# Altium footprint library PcbLib.PcbLib: 19 footprints (part 2 of 2)
Each footprint in its own frame and in the unit in brackets; x right, y up, seen from the top. Pads: shape width x height; smd on the part's side, far side on the other; paste and mask are expansions set on the pad; w line width, h text height; cw(c..) or ccw(c..) is an arc to the next point about the centre after c.
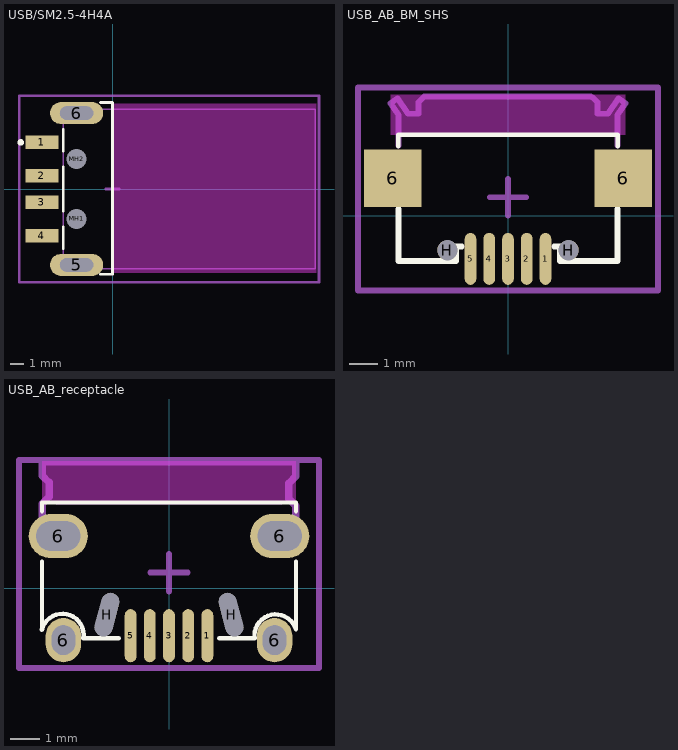
[diagram p1: the footprints below, top view; thin cyan lines are the x and y axes]

## USB/SM2.5-4H4A [mm] "Connector; USB1.1, Type A, SM; 4 Position; Right Angle"
height 4.5
pads (8):
  rect 2.5x1 smd: 1(-5.3,3.5) 2(-5.3,1) 3(-5.3,-1) 4(-5.3,-3.5)
  oval 4x1.65 hole 1 slot 2.5 at 0 deg: 5(-2.7,-5.7) 6(-2.7,5.7)
  round 1.2 hole 1.5 unplated: MH1(-2.7,-2.25) MH2(-2.7,2.25)
Top Overlay:
  circle w0.25: c-6.9,3.5 r0.125
  lines w0.2: -3.7,-4.475 -3.7,-2.83 ; -3.7,-1.68 -3.7,1.68 ; -3.7,2.83 -3.7,4.475 ; -0.9,-6.4 0,-6.4 0,6.5 -0.9,6.5
Keep-Out Layer:
  board cut-out: 0,6.4 0,-6.3 15.3,-6.3 15.3,6.4
Mechanical 1:
  lines w0.1: 0,-6 0,6
  text "PCB Edge" at 0.473,-5.173 h0.25
Mechanical 13:
  lines w0.1: -3.7,-6 -3.7,6 15.2,6 15.2,-6 -3.7,-6
Mechanical 15:
  lines w0.2: -0.5,0 0.5,0 ; 0,-0.5 0,0.5 ; -7,-7 -7,7 15.5,7 15.5,-7 -7,-7
3D body "14381.STEP": height 3.13, standoff -2.67, extent -5.25,-6.3 15.05,6.306

## USB_AB_BM_SHS [mm] "USB Micro AB - Standard (Bottom mount), Shell SMT DESIGNER ABBAS BASEREH"
height 2.8
pads (9):
  oval 0.4x1.8 smd: 1(1.3,-1.5) 2(0.65,-1.5) 3(0,-1.5) 4(-0.65,-1.5) 5(-1.3,-1.5)
  rect 2x2 smd: 6(-4,1.3) 6(4,1.3)
  round 0.7 hole 0.7: H(-2.1,-1.2) H(2.1,-1.2)
Top Overlay:
  lines w0.15: -3.8,2.4 -3.8,2.8 3.8,2.8 3.8,2.4
  lines w0.2: -3.8,0.23 -3.8,-0.27 -3.8,-1.57 -1.9,-1.57 -1.8,-1.57 -1.8,-1.07 -1.6,-1.07 ; 1.6,-1.07 1.8,-1.07 1.8,-1.57 1.9,-1.57 3.8,-1.57 3.8,-0.27 3.8,0.23
Keep-Out Layer:
  board cut-out: -4.064,2.8 -4.064,4.191 4.064,4.191 4.064,2.8
Mechanical 1:
  lines w0.1: -3.8,2.794 3.8,2.794
  lines w0.2: -3.8,2.43 -3.8,3.491 -4.078,3.892 -3.831,4.063 -3.462,3.53 -3.1,3.53 -3.1,3.93 -2.9,4.13 2.87,4.13 2.9,4.1 2.93,4.1 3.1,3.93 3.1,3.53 3.462,3.53 3.831,4.063 4.078,3.892 3.8,3.491 3.8,2.43
  text "PCB EDGE" at -2.413,3.048 h0.7
Mechanical 15:
  lines w0.2: -0.635,0.635 0.635,0.635 ; 0,0 0,1.27 ; -5.2,-2.6 5.2,-2.6 5.2,4.445 -5.2,4.445 -5.2,-2.6
3D body "65944.stEp": height 2.75, standoff -0.55, extent -4,-1.88 4,4.164

## USB_AB_receptacle [mm] "USB Micro AB - receptacle  DESIGNER ABBAS BASEREH"
height 2.8
pads (11):
  oval 0.4x1.8 smd mask+0.05: 1(1.3,-1.612) 2(0.65,-1.612) 3(0,-1.612) 4(-0.65,-1.612) 5(-1.3,-1.612)
  oval 2x1.5 hole 1 slot 1.5 at 0 deg mask+0.05: 6(-3.75,1.763) 6(3.75,1.763)
  oval 1.2x1.5 hole 0.8 slot 1 at 90 deg mask+0.05: 6(-3.575,-1.762) 6(3.575,-1.762)
  oval 1.5x0.6 / inner oval 1.5x0.6 / far side oval 2x1 hole 0.6 slot 1.5 at 75 deg rot 75 mask+0.05: H(-2.1,-0.9)
  oval 1.5x0.6 / inner oval 1.5x0.6 / far side oval 2x1 hole 0.6 slot 1.5 at 105 deg rot 105 mask+0.05: H(2.1,-0.9)
Top Overlay:
  lines w0.15: -4.307,-1.416 cw(c-3.609,-1.587) -2.9,-1.7 -1.7,-1.7 ; -4.3,-1.4 -4.3,0.9 ; -4.3,2.6 -4.3,2.888 -4.288,2.9 4.3,2.9 4.3,2.6 ; 1.7,-1.7 2.9,-1.7 cw(c3.613,-1.61) 4.3,-1.4 4.3,0.9
Keep-Out Layer:
  board cut-out: -4.3,2.888 -4.3,4.3 4.3,4.3 4.3,2.888
Mechanical 1:
  lines w0.1: -3.8,2.882 3.8,2.882
  text "PCB EDGE" at -1.8,3.088 h0.5
Mechanical 13:
  lines w0.254: -4.3,2.388 -4.3,2.863 -4.064,3.099 -4.064,3.577 -4.3,3.813 -4.3,4.288 4.3,4.288 4.3,3.788 4.064,3.552 4.064,3.024 4.3,2.788 4.3,2.288
Mechanical 15:
  lines w0.2: -0.635,0.523 0.635,0.523 ; 0,-0.112 0,1.158 ; -5.08,-2.7 5.08,-2.7 5.08,4.333 -5.08,4.333 -5.08,-2.7
3D body "48281.stEp": height 2.8, standoff -0.6, extent -4.325,-1.512 4.325,4.386